# EAGLE library part DEVLAB_PUYA (library UNIT_Biblioteca_Modulos)
DevLab Development Board, powered by the PY32F003L24D6TR Manufacturer: UNIT Electronics
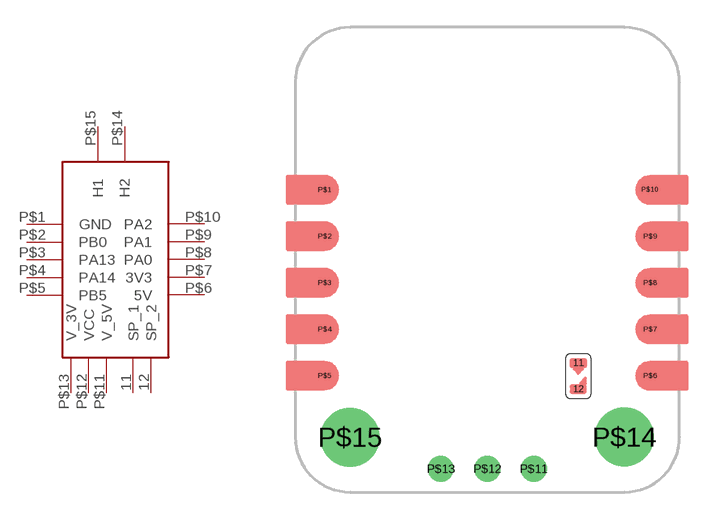
[diagram p34: symbol with the pads of PUYA_PY32F003L24D6TR; footprint PUYA_PY32F003L24D6TR]

Designator prefix -

## DEVLAB_PUYA (SKU: AR4354)  [PUYA_PY32F003L24D6TR]
11  SP_1
12  SP_2
P$1  GND
P$2  PB0
P$3  PA13
P$4  PA14
P$5  PB5
P$6  5V
P$7  3V3
P$8  PA0
P$9  PA1
P$10  PA2
P$11  V_5V
P$12  VCC
P$13  V_3V
P$14  H2
P$15  H1

## Footprint PUYA_PY32F003L24D6TR (pad centres in mm)
smd 0.93 x 0.54: 11 4.978,-5.661; 12 4.978,-7.09
smd 0.813 x 0.406: P$1 -8.89,3.81; P$2 -8.89,1.27; P$3 -8.89,-1.27; P$4 -8.89,-3.81; P$5 -8.89,-6.35; P$6 8.89,-6.35; P$7 8.89,-3.81; P$8 8.89,-1.27; P$9 8.89,1.27; P$10 8.89,3.81
drill 0.9: P$11 2.541,-11.439; P$12 0.004,-11.436; P$13 -2.538,-11.439
drill 2.2: P$14 7.492,-9.702; P$15 -7.492,-9.711